# EAGLE library part NCP45524 (library dubec)
IC LOAD SWITCH
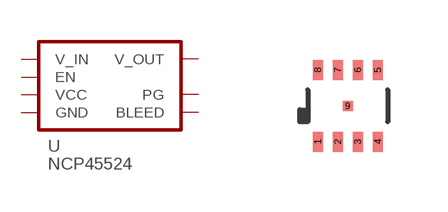
[diagram p17: symbol with the pads of 8-VFDFN; footprint 8-VFDFN]

Designator prefix -

## NCP45524 (DIGIKEY_PART_#: NCP45524IMNTWG-HOSCT-ND; EURO: 0.79; MANUFACTURER: ON Semiconductor; MFG_PART_#: NCP45524IMNTWG-H)  [8-VFDFN]
1  V_IN  pas
2  EN  pas
3  VCC  pas
4  GND  pas
5  BLEED  pas
6  PG  pas
7  V_OUT  pas
8  V_OUT  pas
9  V_IN  pas

## Footprint 8-VFDFN (pad centres in mm)
smd 0.25 x 0.5: 1 -0.75,-0.9; 2 -0.25,-0.9; 3 0.25,-0.9; 4 0.75,-0.9; 5 0.75,0.9; 6 0.25,0.9; 7 -0.25,0.9; 8 -0.75,0.9
smd 0.25 x 0.25: 9 0,0